# EAGLE library part РЭС55 (library relay_ussr)
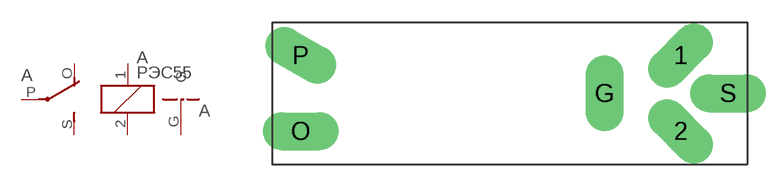
[diagram p0: symbol with the pads of РЭС55А; footprint РЭС55А]

Designator prefix А; gates G$1=K G$2=U G$3=G

## РЭС55А  [РЭС55А]
1  G$1:1  pas
2  G$1:2  pas
G  G$3:G
O  G$2:O  pas
P  G$2:P  pas
S  G$2:S  pas

## Footprint РЭС55А (pad centres in mm)
drill 1.2 pad 2.54 long: 1 13.335,3.175; 2 13.335,-1.905; G 8.255,0.635; S 16.51,0.635
drill 1 pad 2.54 long: O -12.065,-1.905; P -12.065,3.175